# Altium integrated library Linear Technology Power Management Switching Regulator LTC1174-LTC3901.IntLib: 2647 symbols (part 120 of 364)
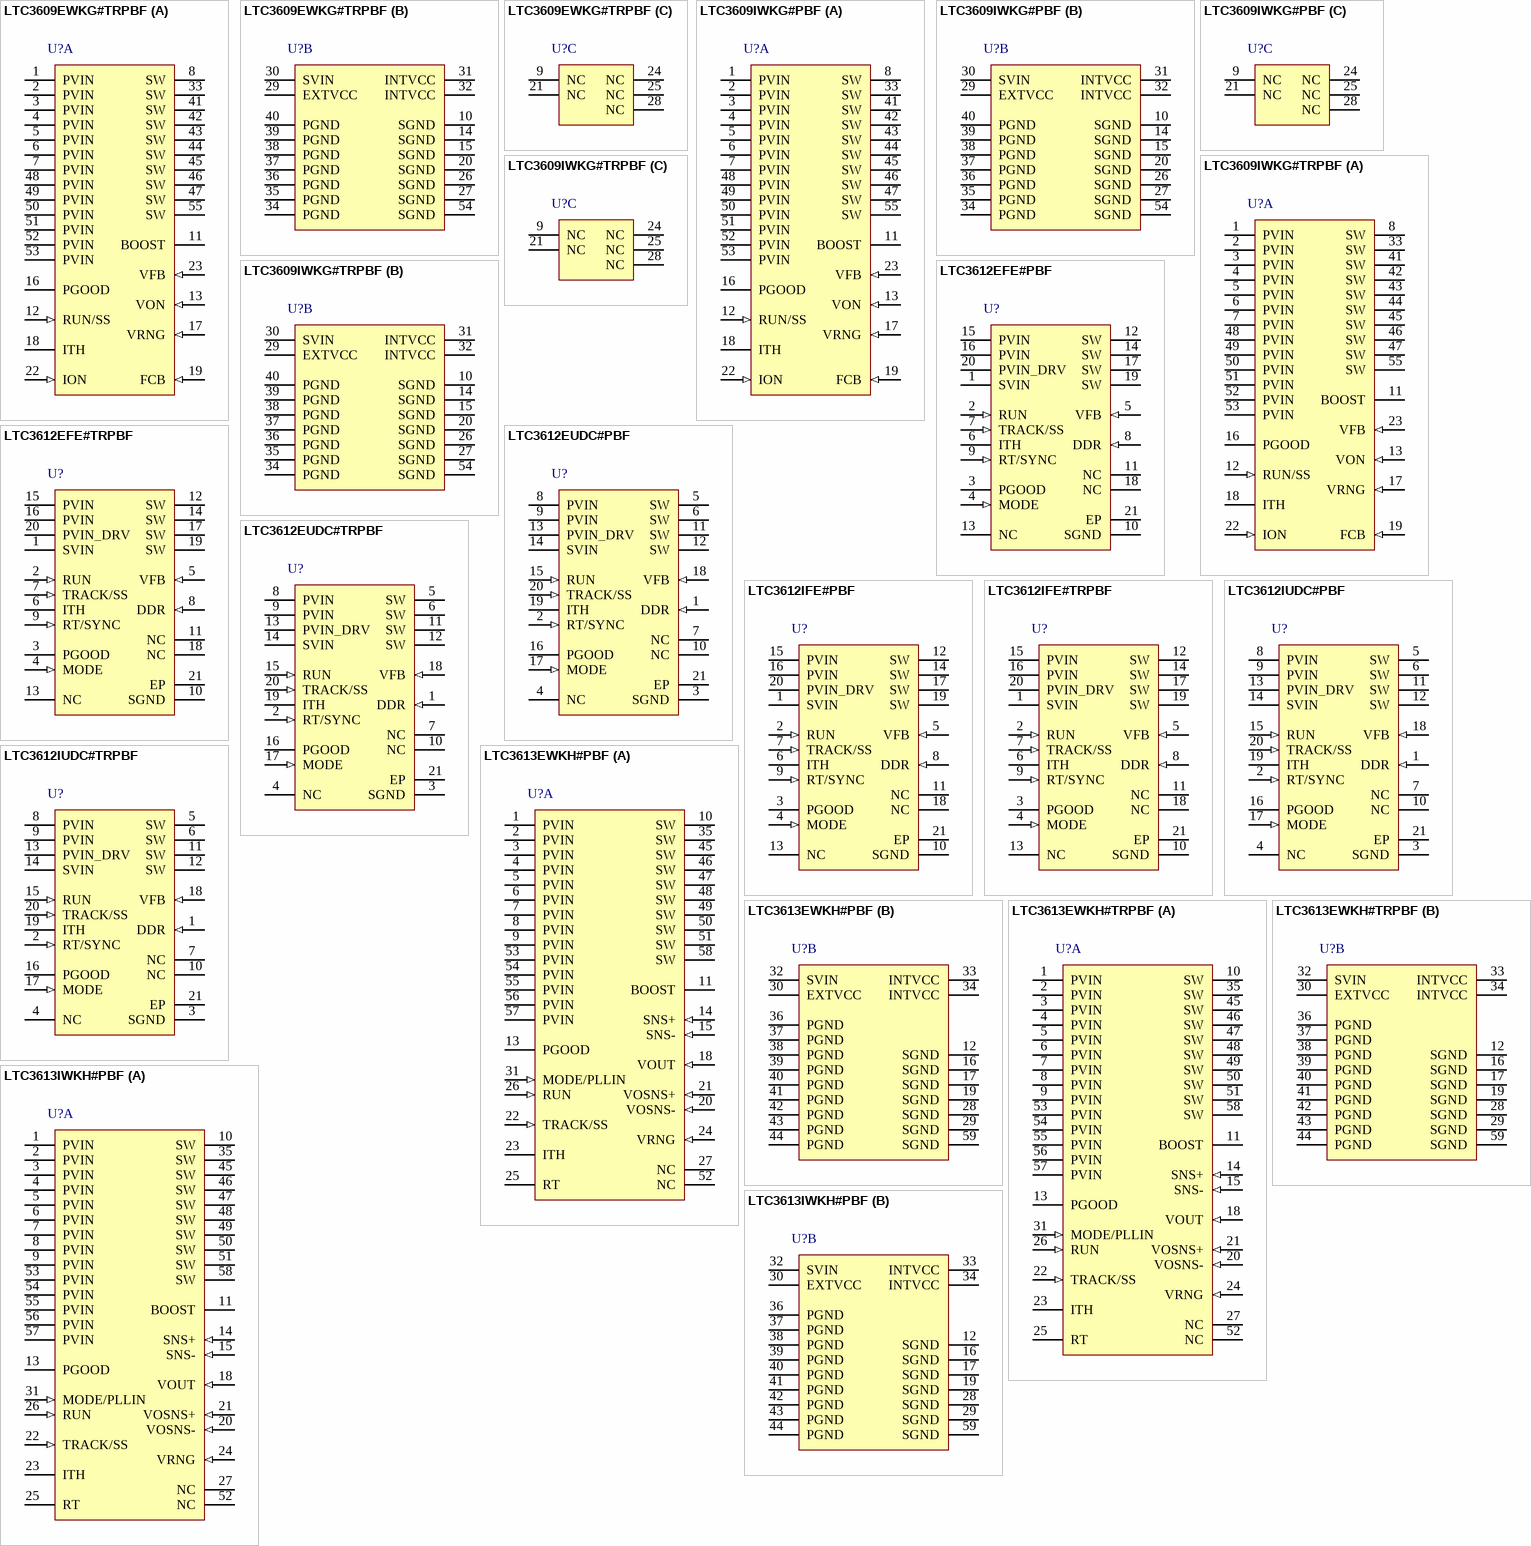
[diagram p276: symbols LTC3609EWKG#TRPBF to LTC3613IWKH#PBF]

## LTC3613EWKH#PBF
designator U?
15 A Monolithic Step Down Regulator with Differential Output Sensing, 56-pin QFN (WKH-56), -40 to 125 degC, Pb-Free; Manufacturer: Linear Technology; PartNumber: LTC3613EWKH#PBF; Frequency Adjust Range: 200kHz - 1MHz; Number of Outputs: 1; DatasheetVersion: Rev. A; PackageVersion: Rev. Ø, 03/2012; PackageReference: WKH-56; PackageDescription: 56-Pin QFN Multipad, Body 9 x 7 mm, Pitch 0.5 mm; Supplier 1: Digi-Key; Supplier Part Number 1: LTC3613EWKH#PBF-ND; Supplier 2: Farnell; Supplier Part Number 2: 2097875; Supplier 3: Newark; Supplier Part Number 3: 78T3230; RoHS: TRUE; Mounting Technology: Surface Mount; Code_JEDEC: SPP-002; ComponentLink1Description: Manufacturer URL; ComponentLink1URL: http://www.linear.com/; ComponentLink2Description: Datasheet; ComponentLink2URL: http://cds.linear.com/docs/en/datasheet/3613fa.pdf; ComponentLink3Description: Package Specification; ComponentLink3URL: http://cds.linear.com/docs/en/packaging/(WKH%2056)%20QFN%2005-08-1870%20Rev%20%C3%98.pdf
footprint LT-WKH-56_V (QFN, 56-Leads, Body 9x7mm, Pitch 0.5mm)
part A pins: 1 PVIN (power) "Power Supply Inputs. These pins connect to the drain of the internal power MOSFETS. The PVIN exposed pad must be soldered to the circuit board for electrical contact and rated thermal performance. The supply voltage can (See Datasheet)", 2 PVIN (power) "Power Supply Inputs. These pins connect to the drain of the internal power MOSFETS. The PVIN exposed pad must be soldered to the circuit board for electrical contact and rated thermal performance. The supply voltage can (See Datasheet)", 3 PVIN (power) "Power Supply Inputs. These pins connect to the drain of the internal power MOSFETS. The PVIN exposed pad must be soldered to the circuit board for electrical contact and rated thermal performance. The supply voltage can (See Datasheet)", 4 PVIN (power) "Power Supply Inputs. These pins connect to the drain of the internal power MOSFETS. The PVIN exposed pad must be soldered to the circuit board for electrical contact and rated thermal performance. The supply voltage can (See Datasheet)", 5 PVIN (power) "Power Supply Inputs. These pins connect to the drain of the internal power MOSFETS. The PVIN exposed pad must be soldered to the circuit board for electrical contact and rated thermal performance. The supply voltage can (See Datasheet)", 6 PVIN (power) "Power Supply Inputs. These pins connect to the drain of the internal power MOSFETS. The PVIN exposed pad must be soldered to the circuit board for electrical contact and rated thermal performance. The supply voltage can (See Datasheet)", 7 PVIN (power) "Power Supply Inputs. These pins connect to the drain of the internal power MOSFETS. The PVIN exposed pad must be soldered to the circuit board for electrical contact and rated thermal performance. The supply voltage can (See Datasheet)", 8 PVIN (power) "Power Supply Inputs. These pins connect to the drain of the internal power MOSFETS. The PVIN exposed pad must be soldered to the circuit board for electrical contact and rated thermal performance. The supply voltage can (See Datasheet)", 9 PVIN (power) "Power Supply Inputs. These pins connect to the drain of the internal power MOSFETS. The PVIN exposed pad must be soldered to the circuit board for electrical contact and rated thermal performance. The supply voltage can (See Datasheet)", 10 SW (power) "Switch Node Connection. The (-) terminal of the bootstrap capacitor, CB, connects to this node. This pin swings from a diode voltage below ground up to VIN. The SW exposed pad must be soldered to the circuit board for (See Datasheet)", 11 BOOST "Boosted Driver Supply Connection. The (+) terminal of the bootstrap capacitor, CB, as well as the cathode of the Schottky diode, DB, connects to this node. This node swings from INTVCC - VSCHOTTKY to VIN + INTVCC - VSCHOTTKY.", 13 PGOOD (oc) "Power Good Indicator Output. This open-drain logic output is pulled to ground when the output voltage is outside of a +/-7.5% window around the regulation point.", 14 SNS+ (in) "Differential Current Sensing (+) Input. For RSENSE current sensing, Kelvin (4-wire) connect SENSE+ and SENSE- pins across the sense resistor. For DCR sensing, Kelvin connect SENSE+ and SENSE- pins across the sense filter (See Datasheet)", 15 SNS- (in) "Differential Current Sensing (-) Input. For RSENSE current sensing, Kelvin (4-wire) connect the SENSE+ and SENSE- pins across the sense resistor. For DCR sensing, Kelvin connect the SENSE+ and SENSE- pins across the sense (See Datasheet)", 18 VOUT (in) "Output voltage sense for adjusting the on-time for constant frequency operation. Tying this pin to the local output (instead of the remote output) is recommended for most applications. This pin can be programmed as needed (See Datasheet)", 20 VOSNS- (in) "Differential Output Sensing (-) Input. Connect this pin to the negative terminal of the output capacitor. There is a bias current of 35uA (typical) flowing out of this pin.", 21 VOSNS+ (in) "Differential Output Sensing (+) Input. Connect this pin to the feedback resistor divider between the positive and negative output capacitor terminals. In normal operation the LTC3613 will regulate the differential output (See Datasheet)", 22 TRACK/SS (in) "External Tracking and Soft-Start Input. The LTC3613 regulates the differential feedback voltage (VOSNS + - VOSNS -) to the smaller of 0.6V or the voltage on the TRACK/SS pin. An internal 1.0uA pull-up current source i(See Datasheet)", 23 ITH "Current Control Voltage and Switching Regulator Compensation Point. The current sense threshold increases with this control voltage which ranges from 0V to 2.4V.", 24 VRNG (in) "Current Sense Voltage Range Input. The maximum allowed sense voltage between SENSE+ and SENSE- is equal to 0.05 ? VRNG. If VRNG is tied to SGND, the device operates with a maximum sense voltage of 30mV. If VRNG is tied t(See Datasheet)", 25 RT "Switching Frequency Programming Pin. Connect an external resistor from RT to signal ground to program the switching frequency between 200kHz and 1MHz. An external clock applied to MODE/PLLIN must be within +/-30% of this (See Datasheet)", 26 RUN (in) "Digital Run Control Input. RUN self biases high with an internal 1.3uA pull-up. Forcing RUN below 1.2V disables switching. Taking RUN below 0.75V shuts down all bias and places the LTC3613 into micropower shutdown mode of (See Datasheet)", 27 NC, 31 MODE/PLLIN (in) "External Clock Synchronization Input and/or Forced Continuous Mode Input. When an external clock is applied to this pin, the rising switching cycle will be synchronized with the rising edge of the external clock. (See Datasheet)", 35 SW (power) "Switch Node Connection. The (-) terminal of the bootstrap capacitor, CB, connects to this node. This pin swings from a diode voltage below ground up to VIN. The SW exposed pad must be soldered to the circuit board for (See Datasheet)", 45 SW (power) "Switch Node Connection. The (-) terminal of the bootstrap capacitor, CB, connects to this node. This pin swings from a diode voltage below ground up to VIN. The SW exposed pad must be soldered to the circuit board for (See Datasheet)", 46 SW (power) "Switch Node Connection. The (-) terminal of the bootstrap capacitor, CB, connects to this node. This pin swings from a diode voltage below ground up to VIN. The SW exposed pad must be soldered to the circuit board for (See Datasheet)", 47 SW (power) "Switch Node Connection. The (-) terminal of the bootstrap capacitor, CB, connects to this node. This pin swings from a diode voltage below ground up to VIN. The SW exposed pad must be soldered to the circuit board for (See Datasheet)", 48 SW (power) "Switch Node Connection. The (-) terminal of the bootstrap capacitor, CB, connects to this node. This pin swings from a diode voltage below ground up to VIN. The SW exposed pad must be soldered to the circuit board for (See Datasheet)", 49 SW (power) "Switch Node Connection. The (-) terminal of the bootstrap capacitor, CB, connects to this node. This pin swings from a diode voltage below ground up to VIN. The SW exposed pad must be soldered to the circuit board for (See Datasheet)", 50 SW (power) "Switch Node Connection. The (-) terminal of the bootstrap capacitor, CB, connects to this node. This pin swings from a diode voltage below ground up to VIN. The SW exposed pad must be soldered to the circuit board for (See Datasheet)", 51 SW (power) "Switch Node Connection. The (-) terminal of the bootstrap capacitor, CB, connects to this node. This pin swings from a diode voltage below ground up to VIN. The SW exposed pad must be soldered to the circuit board for (See Datasheet)", 52 NC, 53 PVIN (power) "Power Supply Inputs. These pins connect to the drain of the internal power MOSFETS. The PVIN exposed pad must be soldered to the circuit board for electrical contact and rated thermal performance. The supply voltage can (See Datasheet)", 54 PVIN (power) "Power Supply Inputs. These pins connect to the drain of the internal power MOSFETS. The PVIN exposed pad must be soldered to the circuit board for electrical contact and rated thermal performance. The supply voltage can (See Datasheet)", 55 PVIN (power) "Power Supply Inputs. These pins connect to the drain of the internal power MOSFETS. The PVIN exposed pad must be soldered to the circuit board for electrical contact and rated thermal performance. The supply voltage can (See Datasheet)", 56 PVIN (power) "Power Supply Inputs. These pins connect to the drain of the internal power MOSFETS. The PVIN exposed pad must be soldered to the circuit board for electrical contact and rated thermal performance. The supply voltage can (See Datasheet)", 57 PVIN (power) "Power Supply Inputs. These pins connect to the drain of the internal power MOSFETS. The PVIN exposed pad must be soldered to the circuit board for electrical contact and rated thermal performance. The supply voltage can (See Datasheet)", 58 SW (power) "Switch Node Connection. The (-) terminal of the bootstrap capacitor, CB, connects to this node. This pin swings from a diode voltage below ground up to VIN. The SW exposed pad must be soldered to the circuit board for (See Datasheet)"
part B pins: 12 SGND (power) "Signal Ground Connection. The SGND exposed pad must be soldered to the circuit board for electrical contact and rated thermal performance. All small-signal components should be connected to the signal ground. Connect signal (See Datasheet)", 16 SGND (power) "Signal Ground Connection. The SGND exposed pad must be soldered to the circuit board for electrical contact and rated thermal performance. All small-signal components should be connected to the signal ground. Connect signal (See Datasheet)", 17 SGND (power) "Signal Ground Connection. The SGND exposed pad must be soldered to the circuit board for electrical contact and rated thermal performance. All small-signal components should be connected to the signal ground. Connect signal (See Datasheet)", 19 SGND (power) "Signal Ground Connection. The SGND exposed pad must be soldered to the circuit board for electrical contact and rated thermal performance. All small-signal components should be connected to the signal ground. Connect signal (See Datasheet)", 28 SGND (power) "Signal Ground Connection. The SGND exposed pad must be soldered to the circuit board for electrical contact and rated thermal performance. All small-signal components should be connected to the signal ground. Connect signal (See Datasheet)", 29 SGND (power) "Signal Ground Connection. The SGND exposed pad must be soldered to the circuit board for electrical contact and rated thermal performance. All small-signal components should be connected to the signal ground. Connect signal (See Datasheet)", 30 EXTVCC (power) "External VCC Input. When EXTVCC exceeds 4.6V, an internal switch connects this pin to INTVCC and shuts down the internal regulator so that the controller and gate drive power is drawn from EXTVCC. EXTVCC should not exceed (See Datasheet)", 32 SVIN (power) "Signal Input Supply. This pin powers the internal control circuitry.", 33 INTVCC (power) "Internal 5.3V Regulator Output. The driver and control circuits are powered from this voltage. Decouple this pin to power ground with a minimum of 4.7uF ceramic capacitor (CVCC). The anode of the Schottky diode, DB, connects (See Datasheet)", 34 INTVCC (power) "Internal 5.3V Regulator Output. The driver and control circuits are powered from this voltage. Decouple this pin to power ground with a minimum of 4.7uF ceramic capacitor (CVCC). The anode of the Schottky diode, DB, connects (See Datasheet)", 36 PGND (power) "Power Ground Connection. Connect this pin as close as practical to the (-) terminal of CVCC and the (-) terminal of CIN.", 37 PGND (power) "Power Ground Connection. Connect this pin as close as practical to the (-) terminal of CVCC and the (-) terminal of CIN.", 38 PGND (power) "Power Ground Connection. Connect this pin as close as practical to the (-) terminal of CVCC and the (-) terminal of CIN.", 39 PGND (power) "Power Ground Connection. Connect this pin as close as practical to the (-) terminal of CVCC and the (-) terminal of CIN.", 40 PGND (power) "Power Ground Connection. Connect this pin as close as practical to the (-) terminal of CVCC and the (-) terminal of CIN.", 41 PGND (power) "Power Ground Connection. Connect this pin as close as practical to the (-) terminal of CVCC and the (-) terminal of CIN.", 42 PGND (power) "Power Ground Connection. Connect this pin as close as practical to the (-) terminal of CVCC and the (-) terminal of CIN.", 43 PGND (power) "Power Ground Connection. Connect this pin as close as practical to the (-) terminal of CVCC and the (-) terminal of CIN.", 44 PGND (power) "Power Ground Connection. Connect this pin as close as practical to the (-) terminal of CVCC and the (-) terminal of CIN.", 59 SGND (power) "Signal Ground Connection. The SGND exposed pad must be soldered to the circuit board for electrical contact and rated thermal performance. All small-signal components should be connected to the signal ground. Connect signal (See Datasheet)"